# EAGLE library part INA126P (library INA126P)
INSTRUMENTATION AMPLIFIER
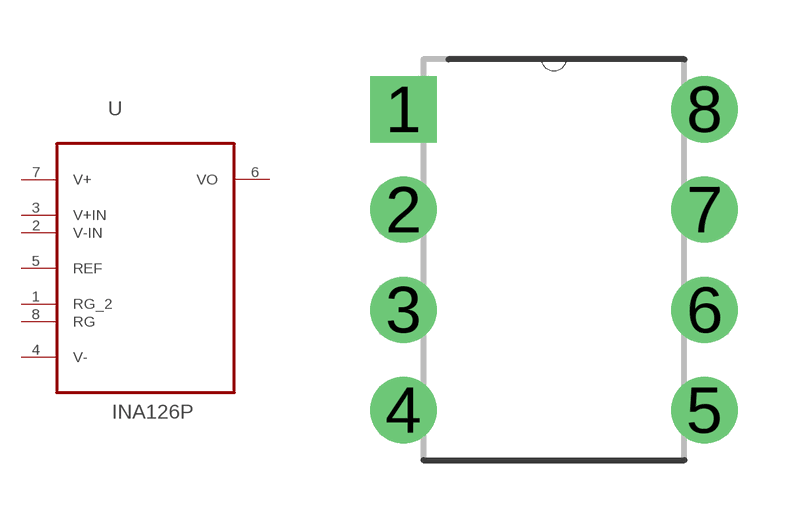
[diagram p0: symbol with the pads of DIP254P762X508-8; footprint DIP254P762X508-8]

Designator prefix U

## INA126P (Availability: Unavailable; Description: 8pin Dip/Pkg Micropower Instrumentation Amplifier Single And Dual Versions; MF: Texas Instruments; MP: INA126P; Package: DIP-8 Texas Instruments; Price: None)  [DIP254P762X508-8]
1  RG_2  pas
2  V-IN  in
3  V+IN  in
4  V-  pwr
5  REF  pas
6  VO  out
7  V+  pwr
8  RG  pas

## Footprint DIP254P762X508-8 (pad centres in mm)
drill 1.118 square: 1 -7.62,7.62
drill 1.118: 2 -7.62,5.08; 3 -7.62,2.54; 4 -7.62,0; 5 0,0; 6 0,2.54; 7 0,5.08; 8 0,7.62